# Altium schematic symbol library TB67S128FTG sch.SchLib: 1 symbol
Pins are listed as number, name and electrical type; pins without a type are passive.

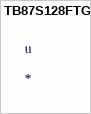
[diagram p0: symbol TB87S128FTG]

## TB87S128FTG
designator u
Bipolar Motor Driver Power MOSFET Parallel 64-VQFN (9x9)